# Altium footprint library Connector Wire to Board.PcbLib: 47 footprints (part 3 of 3)
Each footprint in its own frame and in the unit in brackets; x right, y up, seen from the top. Pads: shape width x height; smd on the part's side, far side on the other; paste and mask are expansions set on the pad; w line width, h text height; cw(c..) or ccw(c..) is an arc to the next point about the centre after c.
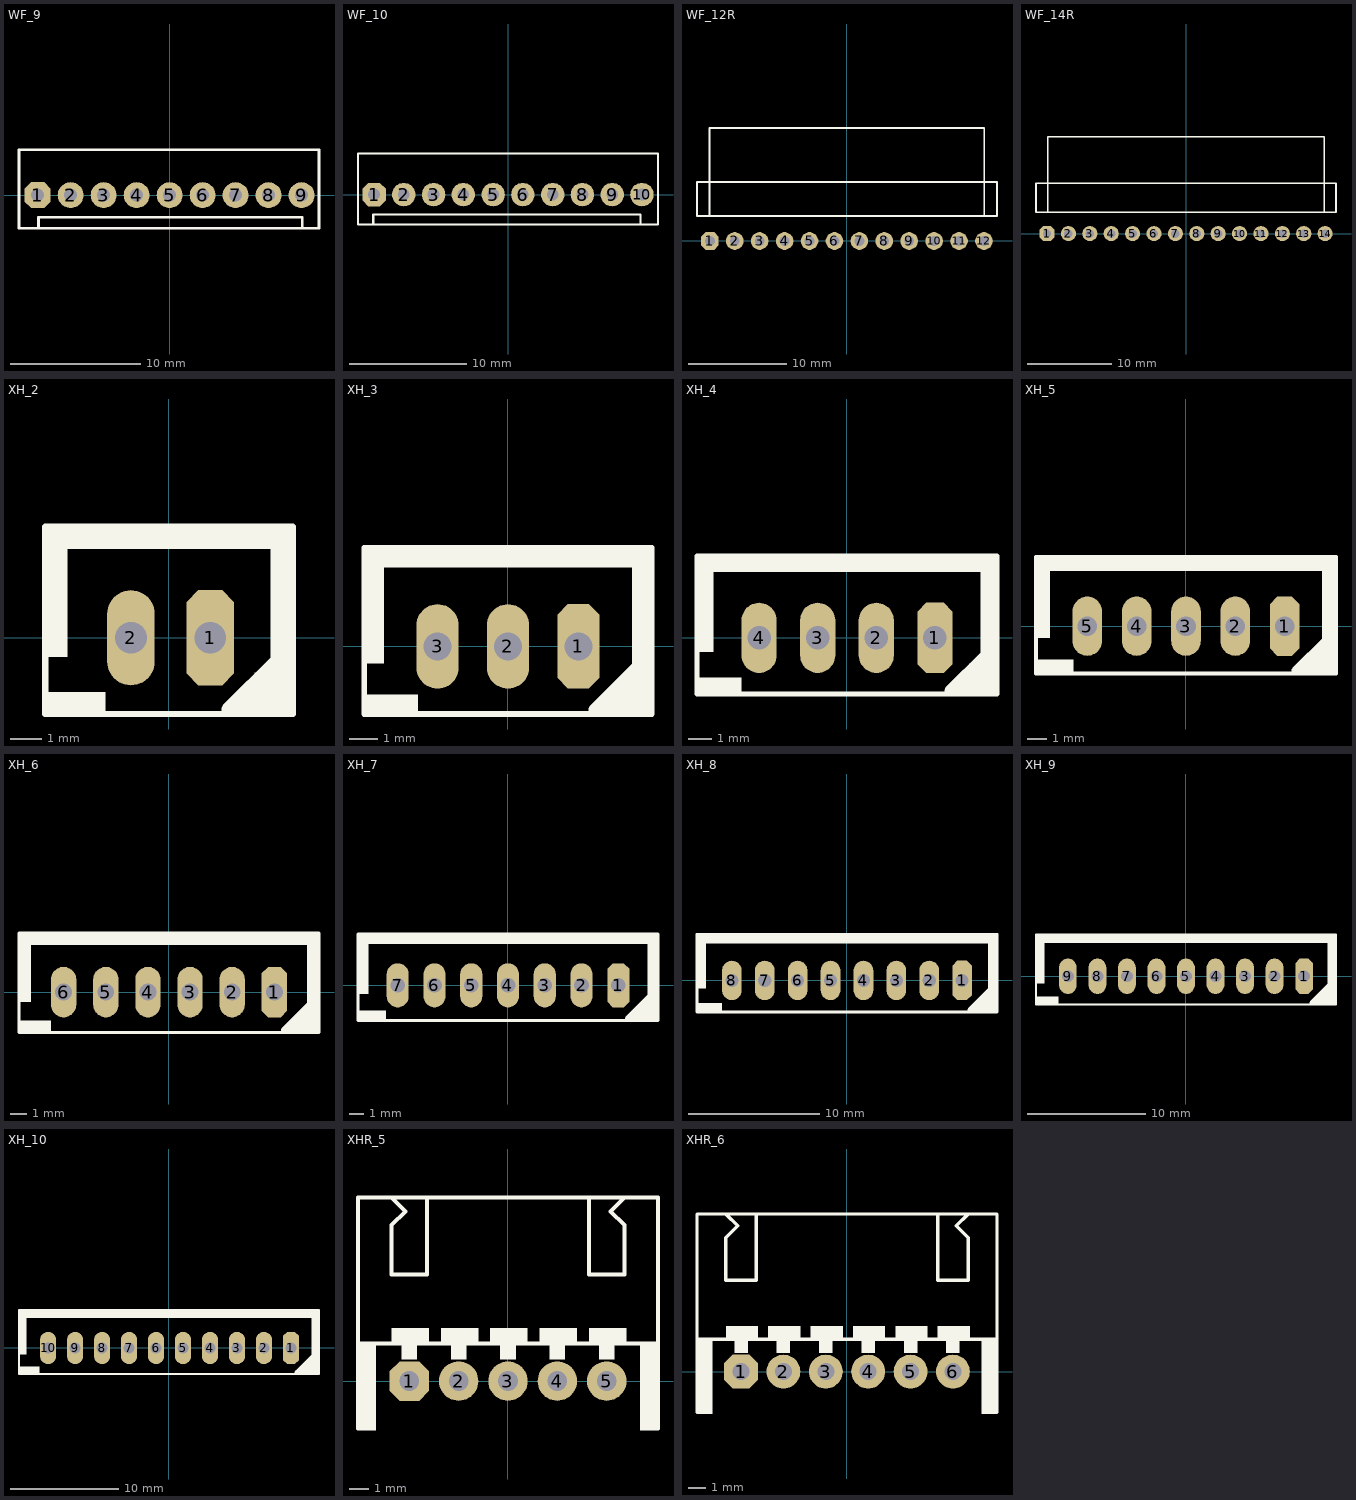
[diagram p2: the footprints below, top view; thin cyan lines are the x and y axes]

## WF_9 [mm] "DS1070  WF, Cvilux CI31 pitch 2.54mm"
pads (9):
  oct 2x2 hole 1: 1(-10.16,0)
  round 2 hole 1: 2(-7.62,0) 3(-5.08,0) 4(-2.54,0) 5(0,0) 6(2.54,0) 7(5.08,0) 8(7.62,0) 9(10.16,0)
Top Overlay:
  lines w0.2: -1.346,-2.548 -11.6,-2.548 -11.6,3.5 11.5,3.5 11.5,-2.548 1.346,-2.548 ; -10.1,-2.548 10.2,-2.548 10.2,-1.7 -10.1,-1.7 -10.1,-2.548
3D body "User Library-CI31_9.step": height 11.56, standoff -3.24, extent -11.43,-2.4 11.43,3.4

## WF_10 [mm] "DS1070  WF, Cvilux CI31 pitch 2.54mm"
pads (10):
  oct 2x2 hole 1: 1(-11.43,0)
  round 2 hole 1: 2(-8.89,0) 3(-6.35,0) 4(-3.81,0) 5(-1.27,0) 6(1.27,0) 7(3.81,0) 8(6.35,0) 9(8.89,0) 10(11.43,0)
Top Overlay:
  lines w0.2: -1.346,-2.548 -12.8,-2.548 -12.8,3.5 12.8,3.5 12.8,-2.548 1.346,-2.548 ; -11.5,-2.548 11.3,-2.548 11.3,-1.7 -11.5,-1.7 -11.5,-2.548
3D body "User Library-CI31_10.step": height 11.56, standoff -3.24, extent -12.7,-2.402 12.7,3.398

## WF_12R [mm] "DS1070  WF, Cvilux CI31 pitch 2.54mm right angle"
pads (12):
  oct 1.8x1.8 hole 1 mask+0.1: 1(-13.97,0)
  round 1.8 hole 1 mask+0.1: 2(-11.43,0) 3(-8.89,0) 4(-6.35,0) 5(-3.81,0) 6(-1.27,0) 7(1.27,0) 8(3.81,0) 9(6.35,0) 10(8.89,0) 11(11.43,0) 12(13.97,0)
Top Overlay:
  lines w0.2: -14,2.548 -14,11.5 14,11.5 14,2.548 ; -15.28,2.548 -15.28,6 15.3,6 15.3,2.548 -15.28,2.548
3D body "molex-kk254-right-12.stp": height 6.38, standoff -3.56, extent -15.164,-0.3 15.164,12.629

## WF_14R [mm] "DS1070  WF, Cvilux CI31 pitch 2.54mm right angle"
pads (14):
  oct 1.8x1.8 hole 1 mask+0.1: 1(-16.51,0)
  round 1.8 hole 1 mask+0.1: 2(-13.97,0) 3(-11.43,0) 4(-8.89,0) 5(-6.35,0) 6(-3.81,0) 7(-1.27,0) 8(1.27,0) 9(3.81,0) 10(6.35,0) 11(8.89,0) 12(11.43,0) 13(13.97,0) 14(16.51,0)
Top Overlay:
  lines w0.2: -16.42,2.548 -16.42,11.5 16.42,11.5 16.42,2.548 ; -17.82,2.548 -17.82,6 17.8,6 17.8,2.548 -17.82,2.548
3D body "molex-kk254-right-14.stp": height 6.38, standoff -3.56, extent -17.704,-0.3 17.704,12.629

## XH_2 [mm] "PW10-xx-M, JST-BxB-XH-A pitch: 2.5mm"
pads (2):
  oct 1.5x3 hole 1: 1(1.3,0)
  oval 1.5x3 hole 1: 2(-1.2,0)
Top Overlay:
  region: 3.9,-0.5 3.2,-0.5 3.2,-2.4 3.9,-2.4
  region: 3.6,-1.1 2.7,-1.1 2.7,-2.4 3.6,-2.4
  region: 3,-1.6 2.3,-1.6 2.3,-2.4 3,-2.4
  region: 2.5,-2 2,-2 2,-2.4 2.5,-2.4
  region: 3.9,3.5 3.2,3.5 3.2,-0.6 3.9,-0.6
  region: -3.9,3.5 -3.9,2.8 3.9,2.8 3.9,3.5
  rectangle: -3.9,-0.6 -3.2,3.5
  rectangle: -3.9,-2.4 -2,-1.7
  lines w0.2: -3.9,-2.4 -3.9,3.5 3.9,3.5 3.9,-2.4 -3.9,-2.4
  lines w0.4: 1.85,-2.25 3.4,-0.7
3D body "User Library-PW10-02-M white.step": height 7, standoff -3.3, extent -3.75,-2.3 3.75,3.4

## XH_3 [mm] "PW10-xx-M, JST-BxB-XH-A pitch: 2.5mm"
pads (3):
  oct 1.5x3 hole 1: 1(2.5,0)
  oval 1.5x3 hole 1: 2(0,0) 3(-2.5,0)
Top Overlay:
  region: 5.1,3.5 4.4,3.5 4.4,-0.6 5.1,-0.6
  region: -5.1,3.5 -5.1,2.8 5.1,2.8 5.1,3.5
  rectangle: -5.1,-0.6 -4.4,3.5
  rectangle: -5.1,-2.4 -3.2,-1.7
  region: 3.7,-2 3.2,-2 3.2,-2.4 3.7,-2.4
  region: 4.2,-1.6 3.5,-1.6 3.5,-2.4 4.2,-2.4
  region: 4.8,-1.1 3.9,-1.1 3.9,-2.4 4.8,-2.4
  region: 5.1,-0.5 4.4,-0.5 4.4,-2.4 5.1,-2.4
  lines w0.2: -5.1,-2.4 -5.1,3.5 5.1,3.5 5.1,-2.4 -5.1,-2.4
  lines w0.4: 3.05,-2.25 4.6,-0.7
3D body "User Library-PW10-03-M white.step": height 7, standoff -3.3, extent -5,-2.3 5,3.4

## XH_4 [mm] "PW10-xx-M, JST-BxB-XH-A pitch: 2.5mm"
pads (4):
  oct 1.5x3 hole 1: 1(3.75,0)
  oval 1.5x3 hole 1: 2(1.25,0) 3(-1.25,0) 4(-3.75,0)
Top Overlay:
  rectangle: -6.4,-2.4 -4.5,-1.7
  rectangle: -6.4,-0.6 -5.7,3.5
  region: -6.4,3.5 -6.4,2.8 6.4,2.8 6.4,3.5
  region: 6.4,3.5 5.7,3.5 5.7,-0.6 6.4,-0.6
  region: 5,-2 4.5,-2 4.5,-2.4 5,-2.4
  region: 5.5,-1.6 4.8,-1.6 4.8,-2.4 5.5,-2.4
  region: 6.1,-1.1 5.2,-1.1 5.2,-2.4 6.1,-2.4
  region: 6.4,-0.5 5.7,-0.5 5.7,-2.4 6.4,-2.4
  lines w0.2: -6.4,-2.4 6.4,-2.4 6.4,3.5 -6.4,3.5 -6.4,-2.4
  lines w0.4: 4.35,-2.25 5.9,-0.7
3D body "User Library-PW10-04-M white.step": height 7, standoff -3.3, extent -6.25,-2.3 6.25,3.4

## XH_5 [mm] "PW10-xx-M, JST-BxB-XH-A pitch: 2.5mm"
pads (5):
  oct 1.5x3 hole 1: 1(5,0)
  oval 1.5x3 hole 1: 2(2.5,0) 3(0,0) 4(-2.5,0) 5(-5,0)
Top Overlay:
  region: 7.6,3.5 6.9,3.5 6.9,-0.6 7.6,-0.6
  region: -7.6,3.5 -7.6,2.8 7.6,2.8 7.6,3.5
  rectangle: -7.6,-0.6 -6.9,3.5
  rectangle: -7.6,-2.4 -5.7,-1.7
  region: 6.2,-2 5.7,-2 5.7,-2.4 6.2,-2.4
  region: 6.7,-1.6 6,-1.6 6,-2.4 6.7,-2.4
  region: 7.3,-1.1 6.4,-1.1 6.4,-2.4 7.3,-2.4
  region: 7.6,-0.5 6.9,-0.5 6.9,-2.4 7.6,-2.4
  lines w0.2: -7.6,-2.4 -7.6,3.5 7.6,3.5 7.6,-2.4 -7.6,-2.4
  lines w0.4: 5.55,-2.25 7.1,-0.7
3D body "User Library-PW10-05-M white.step": height 7, standoff -3.3, extent -7.5,-2.3 7.5,3.4

## XH_6 [mm] "PW10-xx-M, JST-BxB-XH-A pitch: 2.5mm"
pads (6):
  oct 1.5x3 hole 1: 1(6.25,0)
  oval 1.5x3 hole 1: 2(3.75,0) 3(1.25,0) 4(-1.25,0) 5(-3.75,0) 6(-6.25,0)
Top Overlay:
  rectangle: -8.9,-2.4 -7,-1.7
  rectangle: -8.9,-0.6 -8.2,3.5
  region: -8.9,3.5 -8.9,2.8 8.9,2.8 8.9,3.5
  region: 8.9,3.5 8.2,3.5 8.2,-0.6 8.9,-0.6
  region: 7.5,-2 7,-2 7,-2.4 7.5,-2.4
  region: 8,-1.6 7.3,-1.6 7.3,-2.4 8,-2.4
  region: 8.6,-1.1 7.7,-1.1 7.7,-2.4 8.6,-2.4
  region: 8.9,-0.5 8.2,-0.5 8.2,-2.4 8.9,-2.4
  lines w0.2: -8.9,-2.4 8.9,-2.4 8.9,3.5 -8.9,3.5 -8.9,-2.4
  lines w0.4: 6.85,-2.25 8.4,-0.7
3D body "User Library-PW10-06-M white.step": height 7, standoff -3.3, extent -8.75,-2.3 8.75,3.4

## XH_7 [mm] "PW10-xx-M, JST-BxB-XH-A pitch: 2.5mm"
pads (7):
  oct 1.5x3 hole 1: 1(7.5,0)
  oval 1.5x3 hole 1: 2(5,0) 3(2.5,0) 4(0,0) 5(-2.5,0) 6(-5,0) 7(-7.5,0)
Top Overlay:
  rectangle: -10.2,-2.4 -8.3,-1.7
  rectangle: -10.2,-0.6 -9.5,3.5
  region: -10.2,3.5 -10.2,2.8 10.2,2.8 10.2,3.5
  region: 10.2,3.5 9.5,3.5 9.5,-0.6 10.2,-0.6
  region: 8.8,-2 8.3,-2 8.3,-2.4 8.8,-2.4
  region: 9.3,-1.6 8.6,-1.6 8.6,-2.4 9.3,-2.4
  region: 9.9,-1.1 9,-1.1 9,-2.4 9.9,-2.4
  region: 10.2,-0.5 9.5,-0.5 9.5,-2.4 10.2,-2.4
  lines w0.2: -10.2,-2.4 10.2,-2.4 10.2,3.5 -10.2,3.5 -10.2,-2.4
  lines w0.4: 8.15,-2.25 9.7,-0.7
3D body "User Library-PW10-07-M white.step": height 7, standoff -3.3, extent -10.05,-2.3 10.05,3.4

## XH_8 [mm] "PW10-xx-M, JST-BxB-XH-A pitch: 2.5mm"
pads (8):
  oct 1.5x3 hole 1: 1(8.75,0)
  oval 1.5x3 hole 1: 2(6.25,0) 3(3.75,0) 4(1.25,0) 5(-1.25,0) 6(-3.75,0) 7(-6.25,0) 8(-8.75,0)
Top Overlay:
  rectangle: -11.4,-2.4 -9.5,-1.7
  rectangle: -11.4,-0.6 -10.7,3.5
  region: -11.4,3.5 -11.4,2.8 11.4,2.8 11.4,3.5
  region: 11.4,3.5 10.7,3.5 10.7,-0.6 11.4,-0.6
  region: 10,-2 9.5,-2 9.5,-2.4 10,-2.4
  region: 10.5,-1.6 9.8,-1.6 9.8,-2.4 10.5,-2.4
  region: 11.1,-1.1 10.2,-1.1 10.2,-2.4 11.1,-2.4
  region: 11.4,-0.5 10.7,-0.5 10.7,-2.4 11.4,-2.4
  lines w0.2: -11.4,-2.4 11.4,-2.4 11.4,3.5 -11.4,3.5 -11.4,-2.4
  lines w0.4: 9.35,-2.25 10.9,-0.7
3D body "User Library-PW10-08-M white.step": height 7, standoff -3.3, extent -11.3,-2.3 11.3,3.4

## XH_9 [mm] "PW10-xx-M, JST-BxB-XH-A pitch: 2.5mm"
pads (9):
  oct 1.5x3 hole 1: 1(10,0)
  oval 1.5x3 hole 1: 2(7.5,0) 3(5,0) 4(2.5,0) 5(0,0) 6(-2.5,0) 7(-5,0) 8(-7.5,0) 9(-10,0)
Top Overlay:
  rectangle: -12.7,-2.4 -10.8,-1.7
  rectangle: -12.7,-0.6 -12,3.5
  region: -12.7,3.5 -12.7,2.8 12.7,2.8 12.7,3.5
  region: 12.7,3.5 12,3.5 12,-0.6 12.7,-0.6
  region: 11.3,-2 10.8,-2 10.8,-2.4 11.3,-2.4
  region: 11.8,-1.6 11.1,-1.6 11.1,-2.4 11.8,-2.4
  region: 12.4,-1.1 11.5,-1.1 11.5,-2.4 12.4,-2.4
  region: 12.7,-0.5 12,-0.5 12,-2.4 12.7,-2.4
  lines w0.2: -12.7,-2.4 12.7,-2.4 12.7,3.5 -12.7,3.5 -12.7,-2.4
  lines w0.4: 10.65,-2.25 12.2,-0.7
3D body "User Library-PW10-09-M white.step": height 7, standoff -3.3, extent -12.55,-2.3 12.55,3.4

## XH_10 [mm] "PW10-xx-M, JST-BxB-XH-A pitch: 2.5mm"
pads (10):
  oct 1.5x3 hole 1: 1(11.3,0)
  oval 1.5x3 hole 1: 2(8.8,0) 3(6.3,0) 4(3.8,0) 5(1.3,0) 6(-1.2,0) 7(-3.7,0) 8(-6.2,0) 9(-8.7,0) 10(-11.2,0)
Top Overlay:
  region: 12.5,-2 12,-2 12,-2.4 12.5,-2.4
  region: 13,-1.6 12.3,-1.6 12.3,-2.4 13,-2.4
  region: 13.6,-1.1 12.7,-1.1 12.7,-2.4 13.6,-2.4
  region: 13.9,-0.5 13.2,-0.5 13.2,-2.4 13.9,-2.4
  region: 13.9,3.5 13.2,3.5 13.2,-0.6 13.9,-0.6
  region: -13.9,3.5 -13.9,2.8 13.9,2.8 13.9,3.5
  rectangle: -13.9,-0.6 -13.2,3.5
  rectangle: -13.9,-2.4 -12,-1.7
  lines w0.2: -13.9,-2.4 -13.9,3.5 13.9,3.5 13.9,-2.4 -13.9,-2.4
  lines w0.4: 11.85,-2.25 13.4,-0.7
3D body "User Library-PW10-10-M white.step": height 7, standoff -3.3, extent -13.8,-2.3 13.8,3.4

## XHR_5 [mm] "JST-SxB-XH-A pitch: 2.5mm"
pads (5):
  oct 2x2 hole 1: 1(-5,0)
  round 2 hole 1: 2(-2.5,0) 3(0,0) 4(2.5,0) 5(5,0)
Top Overlay:
  rectangle: -7.6,-2.5 -6.7,1.9
  region: 7.6,1.9 6.7,1.9 6.7,-2.5 7.6,-2.5
  rectangle: -5.4,1.1 -4.6,1.9
  rectangle: -2.9,1.1 -2.1,1.9
  rectangle: -0.4,1.1 0.4,1.9
  rectangle: 2.1,1.1 2.9,1.9
  rectangle: 4.6,1.1 5.4,1.9
  rectangle: -5.9,1.9 -4,2.7
  rectangle: -3.4,1.9 -1.5,2.7
  rectangle: -0.9,1.9 1,2.7
  rectangle: 1.6,1.9 3.5,2.7
  rectangle: 4.1,1.9 6,2.7
  lines w0.2: -7.6,-2.4 -7.6,9.3 7.6,9.3 7.6,-2.4 ; -7.6,1.9 7.6,1.9 ; -5.9,9.3 -5.2,8.6 -5.9,7.9 ; -4.1,9.3 -4.1,5.4 -5.9,5.4 -5.9,7.9 ; 4.1,9.3 4.1,5.4 5.9,5.4 5.9,7.9 ; 5.9,9.3 5.2,8.6 5.9,7.9 ; -5.9,7.9 -5.9,7.9 ; 5.9,7.9 5.9,7.9
3D body "User Library-jst-s5b-xh-a.step": height 6.25, standoff -3.25, extent -7.45,-2.3 7.45,9.2

## XHR_6 [mm] "JST-SxB-XH-A pitch: 2.5mm"
pads (6):
  oct 2x2 hole 1: 1(-6.25,0)
  round 2 hole 1: 2(-3.75,0) 3(-1.25,0) 4(1.25,0) 5(3.75,0) 6(6.25,0)
Top Overlay:
  rectangle: -8.85,-2.5 -7.95,1.9
  region: 8.85,1.9 7.95,1.9 7.95,-2.5 8.85,-2.5
  rectangle: -6.65,1.1 -5.85,1.9
  rectangle: -4.15,1.1 -3.35,1.9
  rectangle: -1.65,1.1 -0.85,1.9
  rectangle: 0.85,1.1 1.65,1.9
  rectangle: 3.35,1.1 4.15,1.9
  rectangle: -7.15,1.9 -5.25,2.7
  rectangle: -4.65,1.9 -2.75,2.7
  rectangle: -2.15,1.9 -0.25,2.7
  rectangle: 0.35,1.9 2.25,2.7
  rectangle: 2.85,1.9 4.75,2.7
  rectangle: 5.35,1.9 7.25,2.7
  rectangle: 5.85,1.1 6.65,1.9
  lines w0.2: -8.85,-2.4 -8.85,9.3 8.85,9.3 8.85,-2.4 ; -8.85,1.9 8.85,1.9 ; -7.15,9.3 -6.45,8.6 -7.15,7.9 ; -5.35,9.3 -5.35,5.4 -7.15,5.4 -7.15,7.9 ; 5.35,9.3 5.35,5.4 7.15,5.4 7.15,7.9 ; 7.15,9.3 6.45,8.6 7.15,7.9 ; -7.15,7.9 -7.15,7.9 ; 7.15,7.9 7.15,7.9
3D body "User Library-jst-s5b-xh-a.step": height 6.25, standoff -3.25, extent -8.7,-2.3 6.2,9.2